# Altium integrated library LQH5BPH330MT0L.IntLib: 1 symbol
Pins are listed as number, name and electrical type; pins without a type are passive.

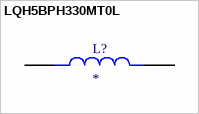
[diagram p0: symbol LQH5BPH330MT0L]

## LQH5BPH330MT0L
designator L?
Inductor Power Chip Shielded Wirewound 4.7uH 30% 100KHz Ferrite 2A 0.0696Ohm DCR 2020 Automotive T/R; MP: LQH5BPH330MT0L; Package: None; Price: None; Value: *; Availability: Unavailable
footprint IND_LQH5BPH330MT0L
pins: 1, 2